# EAGLE library part PCA9536 (library My_TI)
PCA9536 Remote 4-Bit I2C and SMBus I/O Expander • Low Standby Current Consumption of 1 μA Max. • Operating Power-Supply Voltage Range of 2.3 V to 5.5 V. • 400-kHz Fast I2C Bus. Datasheet <http://www.ti.com/lit/ds/symlink/pca9536.pdf>
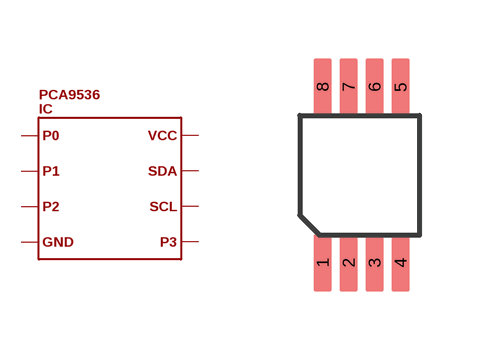
[diagram p46: symbol with the pads of VSSOP8; footprint VSSOP8]

Designator prefix IC

## PCA9536  [VSSOP8]
1  M1
2  M2
3  M3
4  M4
5  M5
6  M6
7  M7
8  M8

## Footprint VSSOP8 (pad centres in mm)
smd 0.45 x 1.45: 1 -1,-2.2; 2 -0.35,-2.2; 3 0.3,-2.2; 4 0.95,-2.2; 5 0.95,2.2; 6 0.3,2.2; 7 -0.35,2.2; 8 -1,2.2